# Altium integrated library TE Connectivity.IntLib: 121 symbols
Pins are listed as number, name and electrical type; pins without a type are passive.

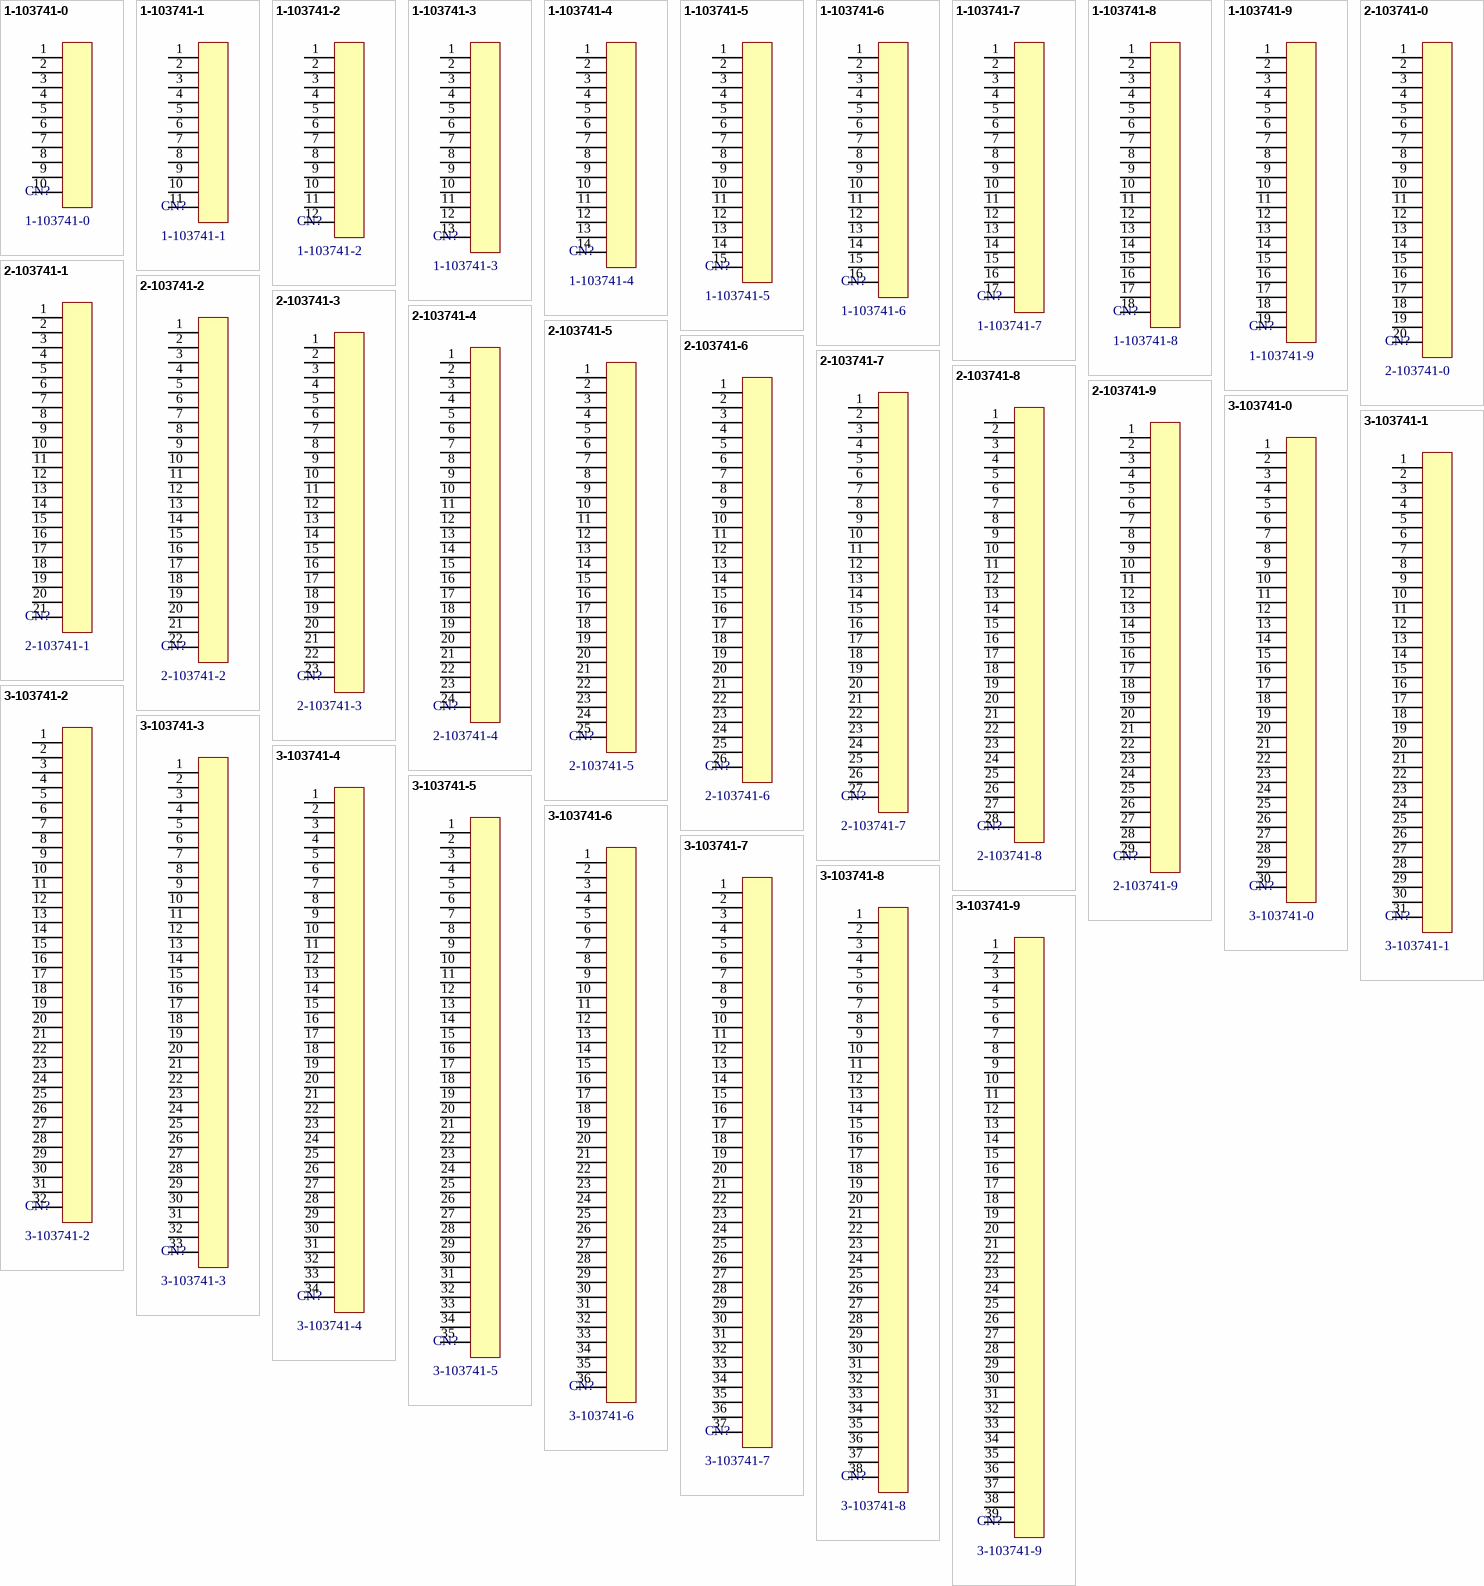
[diagram p0: symbols 1-103741-0 to 3-103741-9]

## 1-103741-0
designator CN?
CONN Breakaway Single Row
footprint 1-103741-0 (CONN Breakaway Single Row)
pins: 1, 2, 3, 4, 5, 6, 7, 8, 9, 10

## 1-103741-1
designator CN?
CONN Breakaway Single Row
footprint 1-103741-1 (CONN Breakaway Single Row)
pins: 1, 2, 3, 4, 5, 6, 7, 8, 9, 10, 11

## 1-103741-2
designator CN?
CONN Breakaway Single Row
footprint 1-103741-2 (CONN Breakaway Single Row)
pins: 1, 2, 3, 4, 5, 6, 7, 8, 9, 10, 11, 12

## 1-103741-3
designator CN?
CONN Breakaway Single Row
footprint 1-103741-3 (CONN Breakaway Single Row)
pins: 1, 2, 3, 4, 5, 6, 7, 8, 9, 10, 11, 12, 13

## 1-103741-4
designator CN?
CONN Breakaway Single Row
footprint 1-103741-4 (CONN Breakaway Single Row)
pins: 1, 2, 3, 4, 5, 6, 7, 8, 9, 10, 11, 12, 13, 14

## 1-103741-5
designator CN?
CONN Breakaway Single Row
footprint 1-103741-5 (CONN Breakaway Single Row)
pins: 1, 2, 3, 4, 5, 6, 7, 8, 9, 10, 11, 12, 13, 14, 15

## 1-103741-6
designator CN?
CONN Breakaway Single Row
footprint 1-103741-6 (CONN Breakaway Single Row)
pins: 1, 2, 3, 4, 5, 6, 7, 8, 9, 10, 11, 12, 13, 14, 15, 16

## 1-103741-7
designator CN?
CONN Breakaway Single Row
footprint 1-103741-7 (CONN Breakaway Single Row)
pins: 1, 2, 3, 4, 5, 6, 7, 8, 9, 10, 11, 12, 13, 14, 15, 16, 17

## 1-103741-8
designator CN?
CONN Breakaway Single Row
footprint 1-103741-8 (CONN Breakaway Single Row)
pins: 1, 2, 3, 4, 5, 6, 7, 8, 9, 10, 11, 12, 13, 14, 15, 16, 17, 18

## 1-103741-9
designator CN?
CONN Breakaway Single Row
footprint 1-103741-9 (CONN Breakaway Single Row)
pins: 1, 2, 3, 4, 5, 6, 7, 8, 9, 10, 11, 12, 13, 14, 15, 16, 17, 18, 19

## 2-103741-0
designator CN?
CONN Breakaway Single Row
footprint 2-103741-0 (CONN Breakaway Single Row)
pins: 1, 2, 3, 4, 5, 6, 7, 8, 9, 10, 11, 12, 13, 14, 15, 16, 17, 18, 19, 20

## 2-103741-1
designator CN?
CONN Breakaway Single Row
footprint 2-103741-1 (CONN Breakaway Single Row)
pins: 1, 2, 3, 4, 5, 6, 7, 8, 9, 10, 11, 12, 13, 14, 15, 16, 17, 18, 19, 20, 21

## 2-103741-2
designator CN?
CONN Breakaway Single Row
footprint 2-103741-2 (CONN Breakaway Single Row)
pins: 1, 2, 3, 4, 5, 6, 7, 8, 9, 10, 11, 12, 13, 14, 15, 16, 17, 18, 19, 20, 21, 22

## 2-103741-3
designator CN?
CONN Breakaway Single Row
footprint 2-103741-3 (CONN Breakaway Single Row)
pins: 1, 2, 3, 4, 5, 6, 7, 8, 9, 10, 11, 12, 13, 14, 15, 16, 17, 18, 19, 20, 21, 22, 23

## 2-103741-4
designator CN?
CONN Breakaway Single Row
footprint 2-103741-4 (CONN Breakaway Single Row)
pins: 1, 2, 3, 4, 5, 6, 7, 8, 9, 10, 11, 12, 13, 14, 15, 16, 17, 18, 19, 20, 21, 22, 23, 24

## 2-103741-5
designator CN?
CONN Breakaway Single Row
footprint 2-103741-5 (CONN Breakaway Single Row)
pins: 1, 2, 3, 4, 5, 6, 7, 8, 9, 10, 11, 12, 13, 14, 15, 16, 17, 18, 19, 20, 21, 22, 23, 24, 25

## 2-103741-6
designator CN?
CONN Breakaway Single Row
footprint 2-103741-6 (CONN Breakaway Single Row)
pins: 1, 2, 3, 4, 5, 6, 7, 8, 9, 10, 11, 12, 13, 14, 15, 16, 17, 18, 19, 20, 21, 22, 23, 24, 25, 26

## 2-103741-7
designator CN?
CONN Breakaway Single Row
footprint 2-103741-7 (CONN Breakaway Single Row)
pins: 1, 2, 3, 4, 5, 6, 7, 8, 9, 10, 11, 12, 13, 14, 15, 16, 17, 18, 19, 20, 21, 22, 23, 24, 25, 26, 27

## 2-103741-8
designator CN?
CONN Breakaway Single Row
footprint 2-103741-8 (CONN Breakaway Single Row)
pins: 1, 2, 3, 4, 5, 6, 7, 8, 9, 10, 11, 12, 13, 14, 15, 16, 17, 18, 19, 20, 21, 22, 23, 24, 25, 26, 27, 28

## 2-103741-9
designator CN?
CONN Breakaway Single Row
footprint 2-103741-9 (CONN Breakaway Single Row)
pins: 1, 2, 3, 4, 5, 6, 7, 8, 9, 10, 11, 12, 13, 14, 15, 16, 17, 18, 19, 20, 21, 22, 23, 24, 25, 26, 27, 28, 29

## 3-103741-0
designator CN?
CONN Breakaway Single Row
footprint 3-103741-0 (CONN Breakaway Single Row)
pins: 1, 2, 3, 4, 5, 6, 7, 8, 9, 10, 11, 12, 13, 14, 15, 16, 17, 18, 19, 20, 21, 22, 23, 24, 25, 26, 27, 28, 29, 30

## 3-103741-1
designator CN?
CONN Breakaway Single Row
footprint 3-103741-1 (CONN Breakaway Single Row)
pins: 1, 2, 3, 4, 5, 6, 7, 8, 9, 10, 11, 12, 13, 14, 15, 16, 17, 18, 19, 20, 21, 22, 23, 24, 25, 26, 27, 28, 29, 30, 31

## 3-103741-2
designator CN?
CONN Breakaway Single Row
footprint 3-103741-2 (CONN Breakaway Single Row)
pins: 1, 2, 3, 4, 5, 6, 7, 8, 9, 10, 11, 12, 13, 14, 15, 16, 17, 18, 19, 20, 21, 22, 23, 24, 25, 26, 27, 28, 29, 30, 31, 32

## 3-103741-3
designator CN?
CONN Breakaway Single Row
footprint 3-103741-3 (CONN Breakaway Single Row)
pins: 1, 2, 3, 4, 5, 6, 7, 8, 9, 10, 11, 12, 13, 14, 15, 16, 17, 18, 19, 20, 21, 22, 23, 24, 25, 26, 27, 28, 29, 30, 31, 32, 33

## 3-103741-4
designator CN?
CONN Breakaway Single Row
footprint 3-103741-4 (CONN Breakaway Single Row)
pins: 1, 2, 3, 4, 5, 6, 7, 8, 9, 10, 11, 12, 13, 14, 15, 16, 17, 18, 19, 20, 21, 22, 23, 24, 25, 26, 27, 28, 29, 30, 31, 32, 33, 34

## 3-103741-5
designator CN?
CONN Breakaway Single Row
footprint 3-103741-5 (CONN Breakaway Single Row)
pins: 1, 2, 3, 4, 5, 6, 7, 8, 9, 10, 11, 12, 13, 14, 15, 16, 17, 18, 19, 20, 21, 22, 23, 24, 25, 26, 27, 28, 29, 30, 31, 32, 33, 34, 35

## 3-103741-6
designator CN?
CONN Breakaway Single Row
footprint 3-103741-6 (CONN Breakaway Single Row)
pins: 1, 2, 3, 4, 5, 6, 7, 8, 9, 10, 11, 12, 13, 14, 15, 16, 17, 18, 19, 20, 21, 22, 23, 24, 25, 26, 27, 28, 29, 30, 31, 32, 33, 34, 35, 36

## 3-103741-7
designator CN?
CONN Breakaway Single Row
footprint 3-103741-7 (CONN Breakaway Single Row)
pins: 1, 2, 3, 4, 5, 6, 7, 8, 9, 10, 11, 12, 13, 14, 15, 16, 17, 18, 19, 20, 21, 22, 23, 24, 25, 26, 27, 28, 29, 30, 31, 32, 33, 34, 35, 36, 37

## 3-103741-8
designator CN?
CONN Breakaway Single Row
footprint 3-103741-8 (CONN Breakaway Single Row)
pins: 1, 2, 3, 4, 5, 6, 7, 8, 9, 10, 11, 12, 13, 14, 15, 16, 17, 18, 19, 20, 21, 22, 23, 24, 25, 26, 27, 28, 29, 30, 31, 32, 33, 34, 35, 36, 37, 38

## 3-103741-9
designator CN?
CONN Breakaway Single Row
footprint 3-103741-9 (CONN Breakaway Single Row)
pins: 1, 2, 3, 4, 5, 6, 7, 8, 9, 10, 11, 12, 13, 14, 15, 16, 17, 18, 19, 20, 21, 22, 23, 24, 25, 26, 27, 28, 29, 30, 31, 32, 33, 34, 35, 36, 37, 38, 39

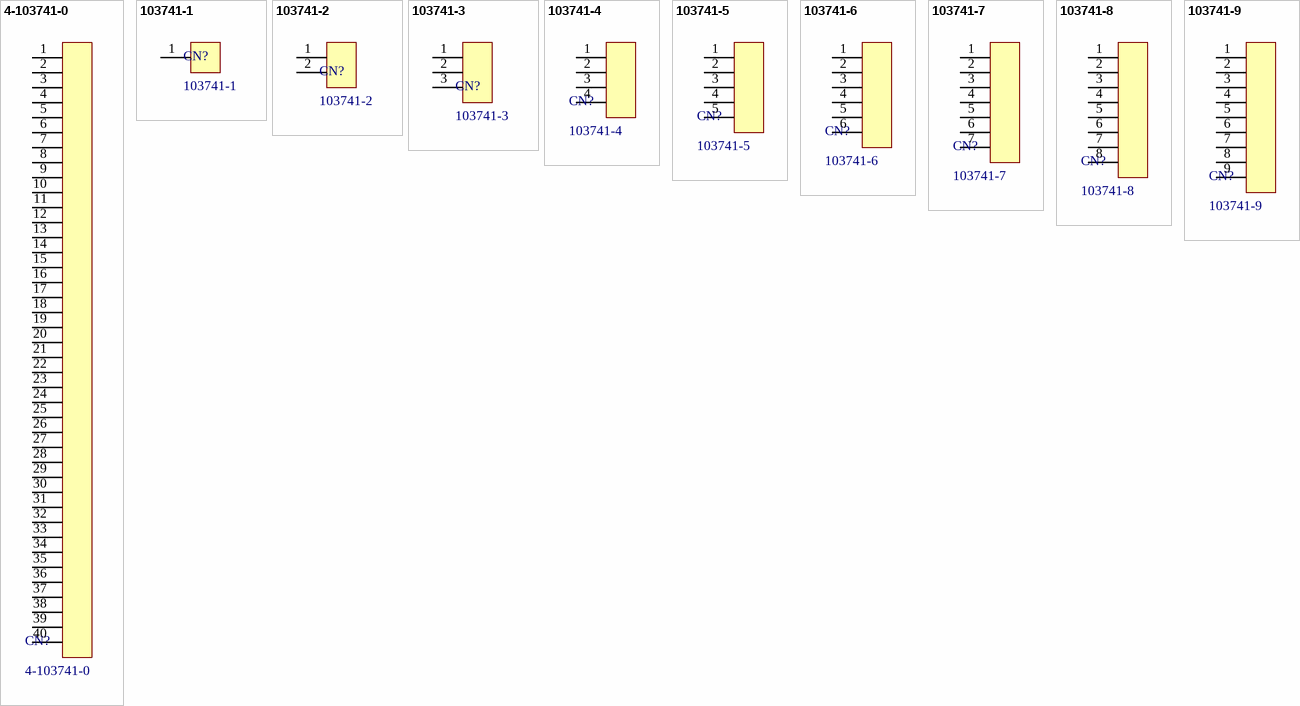
[diagram p1: symbols 4-103741-0 to 103741-9]

## 4-103741-0
designator CN?
CONN Breakaway Single Row
footprint 4-103741-0 (CONN Breakaway Single Row)
pins: 1, 2, 3, 4, 5, 6, 7, 8, 9, 10, 11, 12, 13, 14, 15, 16, 17, 18, 19, 20, 21, 22, 23, 24, 25, 26, 27, 28, 29, 30, 31, 32, 33, 34, 35, 36, 37, 38, 39, 40

## 103741-1
designator CN?
CONN Breakaway Single Row
footprint 103741-1 (CONN Breakaway Single Row)
pins: 1

## 103741-2
designator CN?
CONN Breakaway Single Row
footprint 103741-2 (CONN Breakaway Single Row)
pins: 1, 2

## 103741-3
designator CN?
CONN Breakaway Single Row
footprint 103741-3 (CONN Breakaway Single Row)
pins: 1, 2, 3

## 103741-4
designator CN?
CONN Breakaway Single Row
footprint 103741-4 (CONN Breakaway Single Row)
pins: 1, 2, 3, 4

## 103741-5
designator CN?
CONN Breakaway Single Row
footprint 103741-5 (CONN Breakaway Single Row)
pins: 1, 2, 3, 4, 5

## 103741-6
designator CN?
CONN Breakaway Single Row
footprint 103741-6 (CONN Breakaway Single Row)
pins: 1, 2, 3, 4, 5, 6

## 103741-7
designator CN?
CONN Breakaway Single Row
footprint 103741-7 (CONN Breakaway Single Row)
pins: 1, 2, 3, 4, 5, 6, 7

## 103741-8
designator CN?
CONN Breakaway Single Row
footprint 103741-8 (CONN Breakaway Single Row)
pins: 1, 2, 3, 4, 5, 6, 7, 8

## 103741-9
designator CN?
CONN Breakaway Single Row
footprint 103741-9 (CONN Breakaway Single Row)
pins: 1, 2, 3, 4, 5, 6, 7, 8, 9


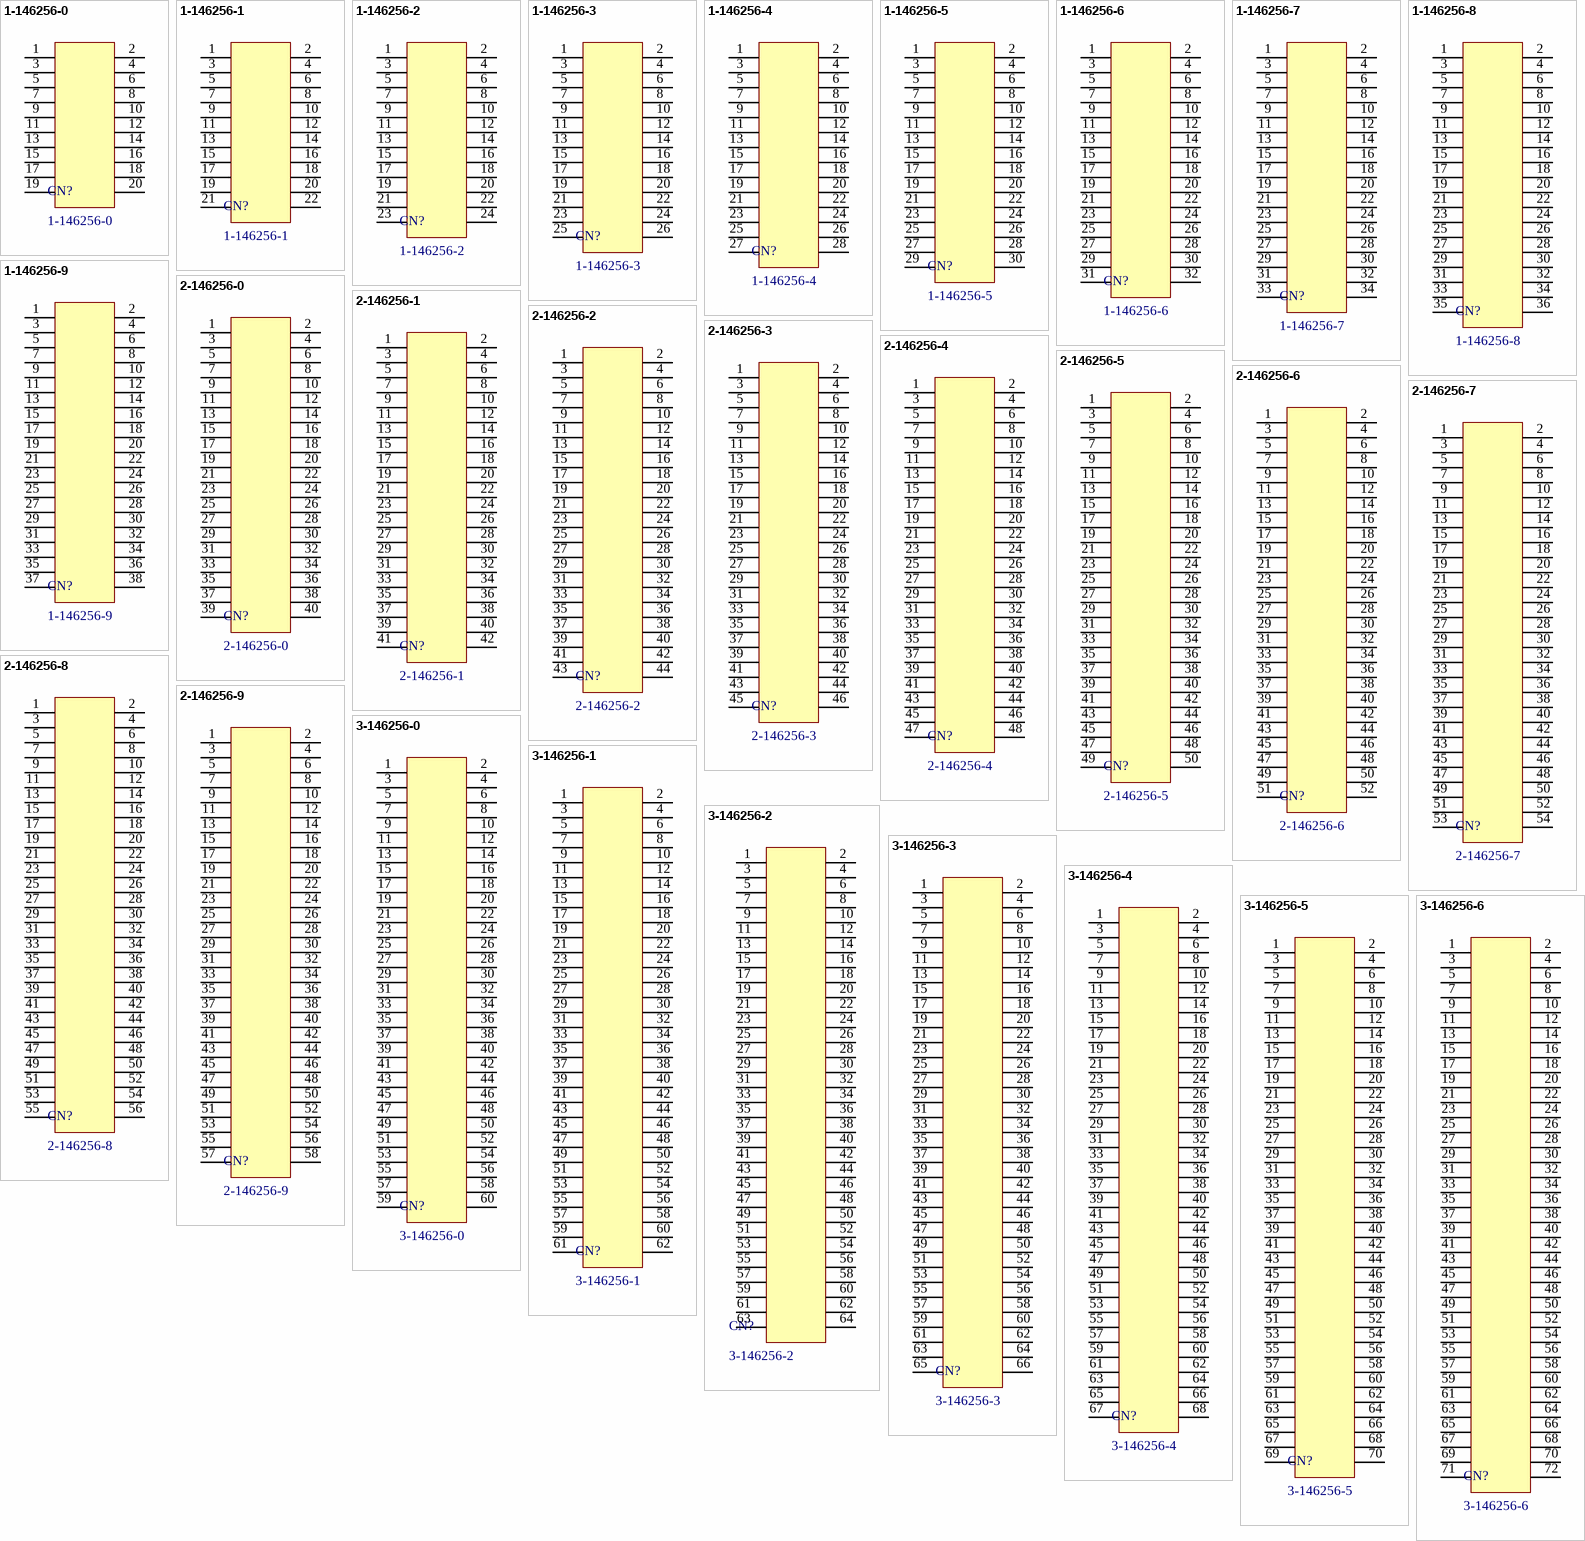
[diagram p2: symbols 1-146256-0 to 3-146256-6]

## 1-146256-0
designator CN?
CONN Header Breakaway
footprint 1-146256-0 (CONN Header Breakaway)
pins: 1, 2, 3, 4, 5, 6, 7, 8, 9, 10, 11, 12, 13, 14, 15, 16, 17, 18, 19, 20

## 1-146256-1
designator CN?
CONN Header Breakaway
footprint 1-146256-1 (CONN Header Breakaway)
pins: 1, 2, 3, 4, 5, 6, 7, 8, 9, 10, 11, 12, 13, 14, 15, 16, 17, 18, 19, 20, 21, 22

## 1-146256-2
designator CN?
CONN Header Breakaway
footprint 1-146256-2 (CONN Header Breakaway)
pins: 1, 2, 3, 4, 5, 6, 7, 8, 9, 10, 11, 12, 13, 14, 15, 16, 17, 18, 19, 20, 21, 22, 23, 24

## 1-146256-3
designator CN?
CONN Header Breakaway
footprint 1-146256-3 (CONN Header Breakaway)
pins: 1, 2, 3, 4, 5, 6, 7, 8, 9, 10, 11, 12, 13, 14, 15, 16, 17, 18, 19, 20, 21, 22, 23, 24, 25, 26

## 1-146256-4
designator CN?
CONN Header Breakaway
footprint 1-146256-4 (CONN Header Breakaway)
pins: 1, 2, 3, 4, 5, 6, 7, 8, 9, 10, 11, 12, 13, 14, 15, 16, 17, 18, 19, 20, 21, 22, 23, 24, 25, 26, 27, 28

## 1-146256-5
designator CN?
CONN Header Breakaway
footprint 1-146256-5 (CONN Header Breakaway)
pins: 1, 2, 3, 4, 5, 6, 7, 8, 9, 10, 11, 12, 13, 14, 15, 16, 17, 18, 19, 20, 21, 22, 23, 24, 25, 26, 27, 28, 29, 30

## 1-146256-6
designator CN?
CONN Header Breakaway
footprint 1-146256-6 (CONN Header Breakaway)
pins: 1, 2, 3, 4, 5, 6, 7, 8, 9, 10, 11, 12, 13, 14, 15, 16, 17, 18, 19, 20, 21, 22, 23, 24, 25, 26, 27, 28, 29, 30, 31, 32

## 1-146256-7
designator CN?
CONN Header Breakaway
footprint 1-146256-7 (CONN Header Breakaway)
pins: 1, 2, 3, 4, 5, 6, 7, 8, 9, 10, 11, 12, 13, 14, 15, 16, 17, 18, 19, 20, 21, 22, 23, 24, 25, 26, 27, 28, 29, 30, 31, 32, 33, 34

## 1-146256-8
designator CN?
CONN Header Breakaway
footprint 1-146256-8 (CONN Header Breakaway)
pins: 1, 2, 3, 4, 5, 6, 7, 8, 9, 10, 11, 12, 13, 14, 15, 16, 17, 18, 19, 20, 21, 22, 23, 24, 25, 26, 27, 28, 29, 30, 31, 32, 33, 34, 35, 36

## 1-146256-9
designator CN?
CONN Header Breakaway
footprint 1-146256-9 (CONN Header Breakaway)
pins: 1, 2, 3, 4, 5, 6, 7, 8, 9, 10, 11, 12, 13, 14, 15, 16, 17, 18, 19, 20, 21, 22, 23, 24, 25, 26, 27, 28, 29, 30, 31, 32, 33, 34, 35, 36, 37, 38

## 2-146256-0
designator CN?
CONN Header Breakaway
footprint 2-146256-0 (CONN Header Breakaway)
pins: 1, 2, 3, 4, 5, 6, 7, 8, 9, 10, 11, 12, 13, 14, 15, 16, 17, 18, 19, 20, 21, 22, 23, 24, 25, 26, 27, 28, 29, 30, 31, 32, 33, 34, 35, 36, 37, 38, 39, 40

## 2-146256-1
designator CN?
CONN Header Breakaway
footprint 2-146256-1 (CONN Header Breakaway)
pins: 1, 2, 3, 4, 5, 6, 7, 8, 9, 10, 11, 12, 13, 14, 15, 16, 17, 18, 19, 20, 21, 22, 23, 24, 25, 26, 27, 28, 29, 30, 31, 32, 33, 34, 35, 36, 37, 38, 39, 40, 41, 42

## 2-146256-2
designator CN?
CONN Header Breakaway
footprint 2-146256-2 (CONN Header Breakaway)
pins: 1, 2, 3, 4, 5, 6, 7, 8, 9, 10, 11, 12, 13, 14, 15, 16, 17, 18, 19, 20, 21, 22, 23, 24, 25, 26, 27, 28, 29, 30, 31, 32, 33, 34, 35, 36, 37, 38, 39, 40, 41, 42, 43, 44

## 2-146256-3
designator CN?
CONN Header Breakaway
footprint 2-146256-3 (CONN Header Breakaway)
pins: 1, 2, 3, 4, 5, 6, 7, 8, 9, 10, 11, 12, 13, 14, 15, 16, 17, 18, 19, 20, 21, 22, 23, 24, 25, 26, 27, 28, 29, 30, 31, 32, 33, 34, 35, 36, 37, 38, 39, 40, 41, 42, 43, 44, 45, 46

## 2-146256-4
designator CN?
CONN Header Breakaway
footprint 2-146256-4 (CONN Header Breakaway)
pins: 1, 2, 3, 4, 5, 6, 7, 8, 9, 10, 11, 12, 13, 14, 15, 16, 17, 18, 19, 20, 21, 22, 23, 24, 25, 26, 27, 28, 29, 30, 31, 32, 33, 34, 35, 36, 37, 38, 39, 40, 41, 42, 43, 44, 45, 46, 47, 48

## 2-146256-5
designator CN?
CONN Header Breakaway
footprint 2-146256-5 (CONN Header Breakaway)
pins: 1, 2, 3, 4, 5, 6, 7, 8, 9, 10, 11, 12, 13, 14, 15, 16, 17, 18, 19, 20, 21, 22, 23, 24, 25, 26, 27, 28, 29, 30, 31, 32, 33, 34, 35, 36, 37, 38, 39, 40, 41, 42, 43, 44, 45, 46, 47, 48, 49, 50

## 2-146256-6
designator CN?
CONN Header Breakaway
footprint 2-146256-6 (CONN Header Breakaway)
pins: 1, 2, 3, 4, 5, 6, 7, 8, 9, 10, 11, 12, 13, 14, 15, 16, 17, 18, 19, 20, 21, 22, 23, 24, 25, 26, 27, 28, 29, 30, 31, 32, 33, 34, 35, 36, 37, 38, 39, 40, 41, 42, 43, 44, 45, 46, 47, 48, 49, 50, 51, 52

## 2-146256-7
designator CN?
CONN Header Breakaway
footprint 2-146256-7 (CONN Header Breakaway)
pins: 1, 2, 3, 4, 5, 6, 7, 8, 9, 10, 11, 12, 13, 14, 15, 16, 17, 18, 19, 20, 21, 22, 23, 24, 25, 26, 27, 28, 29, 30, 31, 32, 33, 34, 35, 36, 37, 38, 39, 40, 41, 42, 43, 44, 45, 46, 47, 48, 49, 50, 51, 52, 53, 54

## 2-146256-8
designator CN?
CONN Header Breakaway
footprint 2-146256-8 (CONN Header Breakaway)
pins: 1, 2, 3, 4, 5, 6, 7, 8, 9, 10, 11, 12, 13, 14, 15, 16, 17, 18, 19, 20, 21, 22, 23, 24, 25, 26, 27, 28, 29, 30, 31, 32, 33, 34, 35, 36, 37, 38, 39, 40, 41, 42, 43, 44, 45, 46, 47, 48, 49, 50, 51, 52, 53, 54, 55, 56

## 2-146256-9
designator CN?
CONN Header Breakaway
footprint 2-146256-9 (CONN Header Breakaway)
pins: 1, 2, 3, 4, 5, 6, 7, 8, 9, 10, 11, 12, 13, 14, 15, 16, 17, 18, 19, 20, 21, 22, 23, 24, 25, 26, 27, 28, 29, 30, 31, 32, 33, 34, 35, 36, 37, 38, 39, 40, 41, 42, 43, 44, 45, 46, 47, 48, 49, 50, 51, 52, 53, 54, 55, 56, 57, 58

## 3-146256-0
designator CN?
CONN Header Breakaway
footprint 3-146256-0 (CONN Header Breakaway)
pins: 1, 2, 3, 4, 5, 6, 7, 8, 9, 10, 11, 12, 13, 14, 15, 16, 17, 18, 19, 20, 21, 22, 23, 24, 25, 26, 27, 28, 29, 30, 31, 32, 33, 34, 35, 36, 37, 38, 39, 40, 41, 42, 43, 44, 45, 46, 47, 48, 49, 50, 51, 52, 53, 54, 55, 56, 57, 58, 59, 60

## 3-146256-1
designator CN?
CONN Header Breakaway
footprint 3-146256-1 (CONN Header Breakaway)
pins: 1, 2, 3, 4, 5, 6, 7, 8, 9, 10, 11, 12, 13, 14, 15, 16, 17, 18, 19, 20, 21, 22, 23, 24, 25, 26, 27, 28, 29, 30, 31, 32, 33, 34, 35, 36, 37, 38, 39, 40, 41, 42, 43, 44, 45, 46, 47, 48, 49, 50, 51, 52, 53, 54, 55, 56, 57, 58, 59, 60, 61, 62

## 3-146256-2
designator CN?
CONN Header Breakaway
footprint 3-146256-2 (CONN Header Breakaway)
pins: 1, 2, 3, 4, 5, 6, 7, 8, 9, 10, 11, 12, 13, 14, 15, 16, 17, 18, 19, 20, 21, 22, 23, 24, 25, 26, 27, 28, 29, 30, 31, 32, 33, 34, 35, 36, 37, 38, 39, 40, 41, 42, 43, 44, 45, 46, 47, 48, 49, 50, 51, 52, 53, 54, 55, 56, 57, 58, 59, 60, 61, 62, 63, 64

## 3-146256-3
designator CN?
CONN Header Breakaway
footprint 3-146256-3 (CONN Header Breakaway)
pins: 1, 2, 3, 4, 5, 6, 7, 8, 9, 10, 11, 12, 13, 14, 15, 16, 17, 18, 19, 20, 21, 22, 23, 24, 25, 26, 27, 28, 29, 30, 31, 32, 33, 34, 35, 36, 37, 38, 39, 40, 41, 42, 43, 44, 45, 46, 47, 48, 49, 50, 51, 52, 53, 54, 55, 56, 57, 58, 59, 60, 61, 62, 63, 64, 65, 66

## 3-146256-4
designator CN?
CONN Header Breakaway
footprint 3-146256-4 (CONN Header Breakaway)
pins: 1, 2, 3, 4, 5, 6, 7, 8, 9, 10, 11, 12, 13, 14, 15, 16, 17, 18, 19, 20, 21, 22, 23, 24, 25, 26, 27, 28, 29, 30, 31, 32, 33, 34, 35, 36, 37, 38, 39, 40, 41, 42, 43, 44, 45, 46, 47, 48, 49, 50, 51, 52, 53, 54, 55, 56, 57, 58, 59, 60, 61, 62, 63, 64, 65, 66, 67, 68

## 3-146256-5
designator CN?
CONN Header Breakaway
footprint 3-146256-5 (CONN Header Breakaway)
pins: 1, 2, 3, 4, 5, 6, 7, 8, 9, 10, 11, 12, 13, 14, 15, 16, 17, 18, 19, 20, 21, 22, 23, 24, 25, 26, 27, 28, 29, 30, 31, 32, 33, 34, 35, 36, 37, 38, 39, 40, 41, 42, 43, 44, 45, 46, 47, 48, 49, 50, 51, 52, 53, 54, 55, 56, 57, 58, 59, 60, 61, 62, 63, 64, 65, 66, 67, 68, 69, 70

## 3-146256-6
designator CN?
CONN Header Breakaway
footprint 3-146256-6 (CONN Header Breakaway)
pins: 1, 2, 3, 4, 5, 6, 7, 8, 9, 10, 11, 12, 13, 14, 15, 16, 17, 18, 19, 20, 21, 22, 23, 24, 25, 26, 27, 28, 29, 30, 31, 32, 33, 34, 35, 36, 37, 38, 39, 40, 41, 42, 43, 44, 45, 46, 47, 48, 49, 50, 51, 52, 53, 54, 55, 56, 57, 58, 59, 60, 61, 62, 63, 64, 65, 66, 67, 68, 69, 70, 71, 72

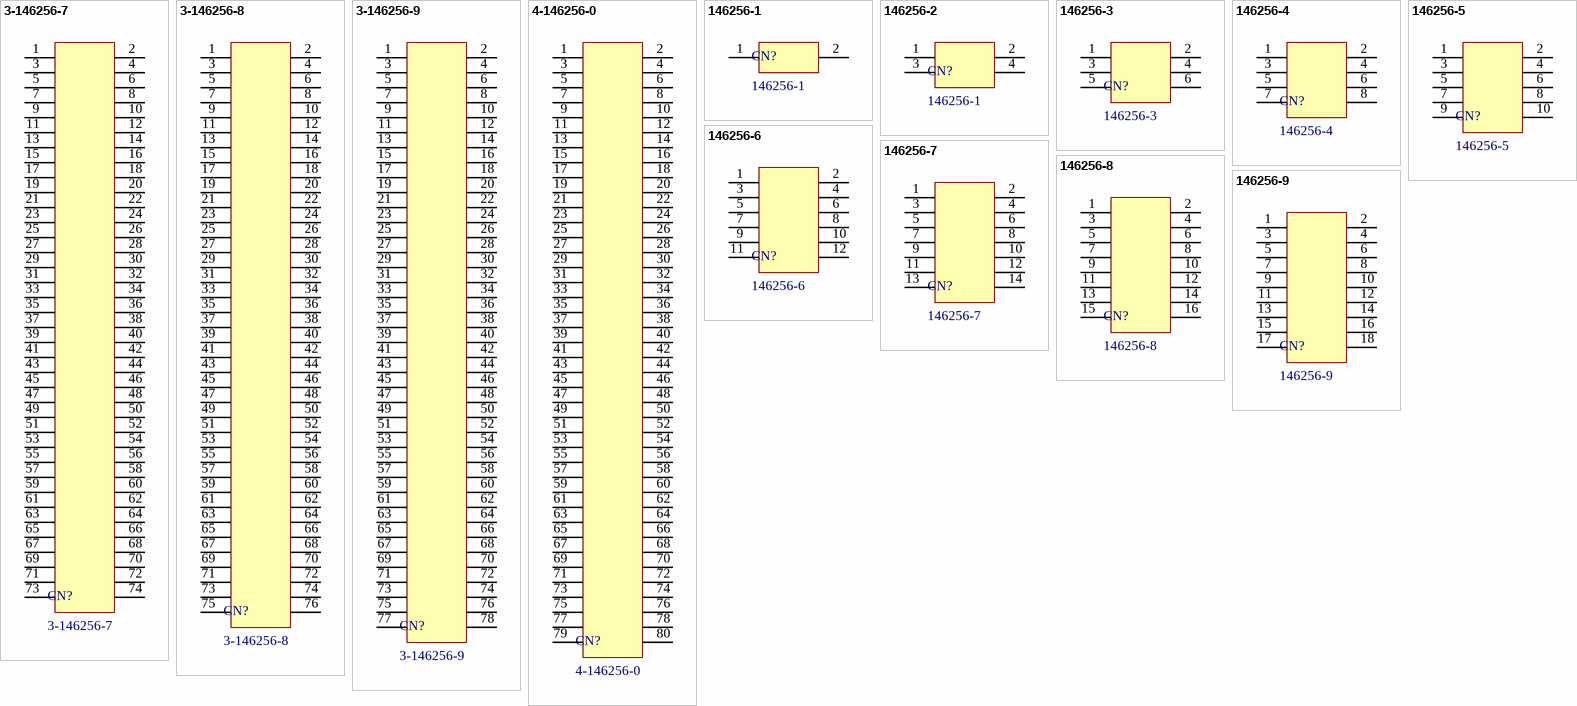
[diagram p3: symbols 3-146256-7 to 146256-9]

## 3-146256-7
designator CN?
CONN Header Breakaway
footprint 3-146256-7 (CONN Header Breakaway)
pins: 1, 2, 3, 4, 5, 6, 7, 8, 9, 10, 11, 12, 13, 14, 15, 16, 17, 18, 19, 20, 21, 22, 23, 24, 25, 26, 27, 28, 29, 30, 31, 32, 33, 34, 35, 36, 37, 38, 39, 40, 41, 42, 43, 44, 45, 46, 47, 48, 49, 50, 51, 52, 53, 54, 55, 56, 57, 58, 59, 60, 61, 62, 63, 64, 65, 66, 67, 68, 69, 70, 71, 72, 73, 74

## 3-146256-8
designator CN?
CONN Header Breakaway
footprint 3-146256-8 (CONN Header Breakaway)
pins: 1, 2, 3, 4, 5, 6, 7, 8, 9, 10, 11, 12, 13, 14, 15, 16, 17, 18, 19, 20, 21, 22, 23, 24, 25, 26, 27, 28, 29, 30, 31, 32, 33, 34, 35, 36, 37, 38, 39, 40, 41, 42, 43, 44, 45, 46, 47, 48, 49, 50, 51, 52, 53, 54, 55, 56, 57, 58, 59, 60, 61, 62, 63, 64, 65, 66, 67, 68, 69, 70, 71, 72, 73, 74, 75, 76

## 3-146256-9
designator CN?
CONN Header Breakaway
footprint 3-146256-9 (CONN Header Breakaway)
pins: 1, 2, 3, 4, 5, 6, 7, 8, 9, 10, 11, 12, 13, 14, 15, 16, 17, 18, 19, 20, 21, 22, 23, 24, 25, 26, 27, 28, 29, 30, 31, 32, 33, 34, 35, 36, 37, 38, 39, 40, 41, 42, 43, 44, 45, 46, 47, 48, 49, 50, 51, 52, 53, 54, 55, 56, 57, 58, 59, 60, 61, 62, 63, 64, 65, 66, 67, 68, 69, 70, 71, 72, 73, 74, 75, 76, 77, 78

## 4-146256-0
designator CN?
CONN Header Breakaway
footprint 4-146256-0 (CONN Header Breakaway)
pins: 1, 2, 3, 4, 5, 6, 7, 8, 9, 10, 11, 12, 13, 14, 15, 16, 17, 18, 19, 20, 21, 22, 23, 24, 25, 26, 27, 28, 29, 30, 31, 32, 33, 34, 35, 36, 37, 38, 39, 40, 41, 42, 43, 44, 45, 46, 47, 48, 49, 50, 51, 52, 53, 54, 55, 56, 57, 58, 59, 60, 61, 62, 63, 64, 65, 66, 67, 68, 69, 70, 71, 72, 73, 74, 75, 76, 77, 78, 79, 80

## 146256-1
designator CN?
CONN Header Breakaway
footprint 146256-1 (CONN Header Breakaway)
pins: 1, 2

## 146256-2
designator CN?, comment 146256-1
CONN Header Breakaway
footprint 146256-2 (CONN Header Breakaway)
pins: 1, 2, 3, 4

## 146256-3
designator CN?
CONN Header Breakaway
footprint 146256-3 (CONN Header Breakaway)
pins: 1, 2, 3, 4, 5, 6

## 146256-4
designator CN?
CONN Header Breakaway
footprint 146256-4 (CONN Header Breakaway)
pins: 1, 2, 3, 4, 5, 6, 7, 8

## 146256-5
designator CN?
CONN Header Breakaway
footprint 146256-5 (CONN Header Breakaway)
pins: 1, 2, 3, 4, 5, 6, 7, 8, 9, 10

## 146256-6
designator CN?
CONN Header Breakaway
footprint 146256-6 (CONN Header Breakaway)
pins: 1, 2, 3, 4, 5, 6, 7, 8, 9, 10, 11, 12

## 146256-7
designator CN?
CONN Header Breakaway
footprint 146256-7 (CONN Header Breakaway)
pins: 1, 2, 3, 4, 5, 6, 7, 8, 9, 10, 11, 12, 13, 14

## 146256-8
designator CN?
CONN Header Breakaway
footprint 146256-8 (CONN Header Breakaway)
pins: 1, 2, 3, 4, 5, 6, 7, 8, 9, 10, 11, 12, 13, 14, 15, 16

## 146256-9
designator CN?
CONN Header Breakaway
footprint 146256-9 (CONN Header Breakaway)
pins: 1, 2, 3, 4, 5, 6, 7, 8, 9, 10, 11, 12, 13, 14, 15, 16, 17, 18


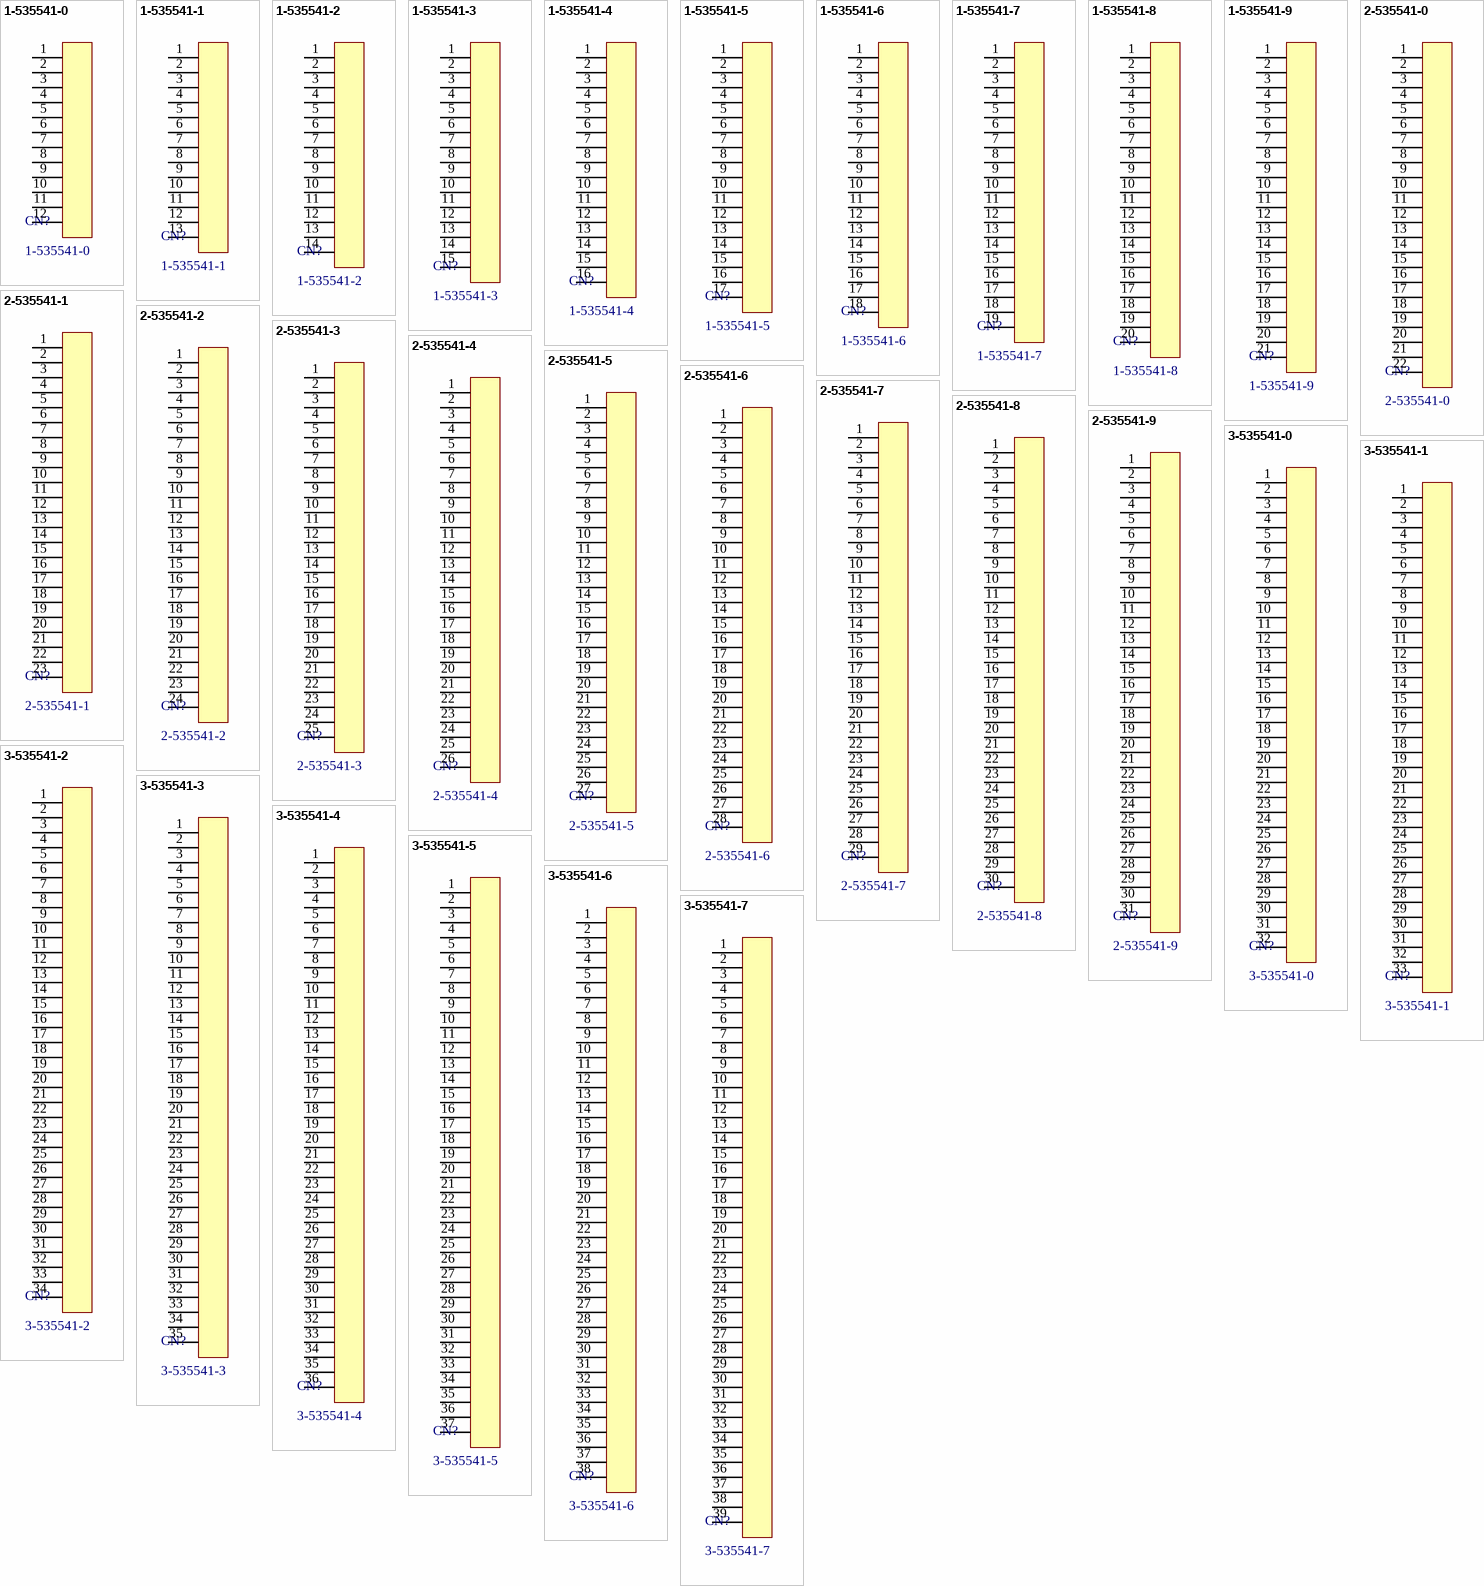
[diagram p4: symbols 1-535541-0 to 3-535541-7]

## 1-535541-0
designator CN?
CONN Receptacle Single Row Gold
footprint 1-535541-0 (CONN Receptacle Single Row Gold)
pins: 1, 2, 3, 4, 5, 6, 7, 8, 9, 10, 11, 12

## 1-535541-1
designator CN?
CONN Receptacle Single Row Gold
footprint 1-535541-1 (CONN Receptacle Single Row Gold)
pins: 1, 2, 3, 4, 5, 6, 7, 8, 9, 10, 11, 12, 13

## 1-535541-2
designator CN?
CONN Receptacle Single Row Gold
footprint 1-535541-2 (CONN Receptacle Single Row Gold)
pins: 1, 2, 3, 4, 5, 6, 7, 8, 9, 10, 11, 12, 13, 14

## 1-535541-3
designator CN?
CONN Receptacle Single Row Gold
footprint 1-535541-3 (CONN Receptacle Single Row Gold)
pins: 1, 2, 3, 4, 5, 6, 7, 8, 9, 10, 11, 12, 13, 14, 15

## 1-535541-4
designator CN?
CONN Receptacle Single Row Gold
footprint 1-535541-4 (CONN Receptacle Single Row Gold)
pins: 1, 2, 3, 4, 5, 6, 7, 8, 9, 10, 11, 12, 13, 14, 15, 16

## 1-535541-5
designator CN?
CONN Receptacle Single Row Gold
footprint 1-535541-5 (CONN Receptacle Single Row Gold)
pins: 1, 2, 3, 4, 5, 6, 7, 8, 9, 10, 11, 12, 13, 14, 15, 16, 17

## 1-535541-6
designator CN?
CONN Receptacle Single Row Gold
footprint 1-535541-6 (CONN Receptacle Single Row Gold)
pins: 1, 2, 3, 4, 5, 6, 7, 8, 9, 10, 11, 12, 13, 14, 15, 16, 17, 18

## 1-535541-7
designator CN?
CONN Receptacle Single Row Gold
footprint 1-535541-7 (CONN Receptacle Single Row Gold)
pins: 1, 2, 3, 4, 5, 6, 7, 8, 9, 10, 11, 12, 13, 14, 15, 16, 17, 18, 19

## 1-535541-8
designator CN?
CONN Receptacle Single Row Gold
footprint 1-535541-8 (CONN Receptacle Single Row Gold)
pins: 1, 2, 3, 4, 5, 6, 7, 8, 9, 10, 11, 12, 13, 14, 15, 16, 17, 18, 19, 20

## 1-535541-9
designator CN?
CONN Receptacle Single Row Gold
footprint 1-535541-9 (CONN Receptacle Single Row Gold)
pins: 1, 2, 3, 4, 5, 6, 7, 8, 9, 10, 11, 12, 13, 14, 15, 16, 17, 18, 19, 20, 21

## 2-535541-0
designator CN?
CONN Receptacle Single Row Gold
footprint 2-535541-0 (CONN Receptacle Single Row Gold)
pins: 1, 2, 3, 4, 5, 6, 7, 8, 9, 10, 11, 12, 13, 14, 15, 16, 17, 18, 19, 20, 21, 22

## 2-535541-1
designator CN?
CONN Receptacle Single Row Gold
footprint 2-535541-1 (CONN Receptacle Single Row Gold)
pins: 1, 2, 3, 4, 5, 6, 7, 8, 9, 10, 11, 12, 13, 14, 15, 16, 17, 18, 19, 20, 21, 22, 23

## 2-535541-2
designator CN?
CONN Receptacle Single Row Gold
footprint 2-535541-2 (CONN Receptacle Single Row Gold)
pins: 1, 2, 3, 4, 5, 6, 7, 8, 9, 10, 11, 12, 13, 14, 15, 16, 17, 18, 19, 20, 21, 22, 23, 24

## 2-535541-3
designator CN?
CONN Receptacle Single Row Gold
footprint 2-535541-3 (CONN Receptacle Single Row Gold)
pins: 1, 2, 3, 4, 5, 6, 7, 8, 9, 10, 11, 12, 13, 14, 15, 16, 17, 18, 19, 20, 21, 22, 23, 24, 25

## 2-535541-4
designator CN?
CONN Receptacle Single Row Gold
footprint 2-535541-4 (CONN Receptacle Single Row Gold)
pins: 1, 2, 3, 4, 5, 6, 7, 8, 9, 10, 11, 12, 13, 14, 15, 16, 17, 18, 19, 20, 21, 22, 23, 24, 25, 26

## 2-535541-5
designator CN?
CONN Receptacle Single Row Gold
footprint 2-535541-5 (CONN Receptacle Single Row Gold)
pins: 1, 2, 3, 4, 5, 6, 7, 8, 9, 10, 11, 12, 13, 14, 15, 16, 17, 18, 19, 20, 21, 22, 23, 24, 25, 26, 27

## 2-535541-6
designator CN?
CONN Receptacle Single Row Gold
footprint 2-535541-6 (CONN Receptacle Single Row Gold)
pins: 1, 2, 3, 4, 5, 6, 7, 8, 9, 10, 11, 12, 13, 14, 15, 16, 17, 18, 19, 20, 21, 22, 23, 24, 25, 26, 27, 28

## 2-535541-7
designator CN?
CONN Receptacle Single Row Gold
footprint 2-535541-7 (CONN Receptacle Single Row Gold)
pins: 1, 2, 3, 4, 5, 6, 7, 8, 9, 10, 11, 12, 13, 14, 15, 16, 17, 18, 19, 20, 21, 22, 23, 24, 25, 26, 27, 28, 29

## 2-535541-8
designator CN?
CONN Receptacle Single Row Gold
footprint 2-535541-8 (CONN Receptacle Single Row Gold)
pins: 1, 2, 3, 4, 5, 6, 7, 8, 9, 10, 11, 12, 13, 14, 15, 16, 17, 18, 19, 20, 21, 22, 23, 24, 25, 26, 27, 28, 29, 30

## 2-535541-9
designator CN?
CONN Receptacle Single Row Gold
footprint 2-535541-9 (CONN Receptacle Single Row Gold)
pins: 1, 2, 3, 4, 5, 6, 7, 8, 9, 10, 11, 12, 13, 14, 15, 16, 17, 18, 19, 20, 21, 22, 23, 24, 25, 26, 27, 28, 29, 30, 31

## 3-535541-0
designator CN?
CONN Receptacle Single Row Gold
footprint 3-535541-0 (CONN Receptacle Single Row Gold)
pins: 1, 2, 3, 4, 5, 6, 7, 8, 9, 10, 11, 12, 13, 14, 15, 16, 17, 18, 19, 20, 21, 22, 23, 24, 25, 26, 27, 28, 29, 30, 31, 32

## 3-535541-1
designator CN?
CONN Receptacle Single Row Gold
footprint 3-535541-1 (CONN Receptacle Single Row Gold)
pins: 1, 2, 3, 4, 5, 6, 7, 8, 9, 10, 11, 12, 13, 14, 15, 16, 17, 18, 19, 20, 21, 22, 23, 24, 25, 26, 27, 28, 29, 30, 31, 32, 33

## 3-535541-2
designator CN?
CONN Receptacle Single Row Gold
footprint 3-535541-2 (CONN Receptacle Single Row Gold)
pins: 1, 2, 3, 4, 5, 6, 7, 8, 9, 10, 11, 12, 13, 14, 15, 16, 17, 18, 19, 20, 21, 22, 23, 24, 25, 26, 27, 28, 29, 30, 31, 32, 33, 34

## 3-535541-3
designator CN?
CONN Receptacle Single Row Gold
footprint 3-535541-3 (CONN Receptacle Single Row Gold)
pins: 1, 2, 3, 4, 5, 6, 7, 8, 9, 10, 11, 12, 13, 14, 15, 16, 17, 18, 19, 20, 21, 22, 23, 24, 25, 26, 27, 28, 29, 30, 31, 32, 33, 34, 35

## 3-535541-4
designator CN?
CONN Receptacle Single Row Gold
footprint 3-535541-4 (CONN Receptacle Single Row Gold)
pins: 1, 2, 3, 4, 5, 6, 7, 8, 9, 10, 11, 12, 13, 14, 15, 16, 17, 18, 19, 20, 21, 22, 23, 24, 25, 26, 27, 28, 29, 30, 31, 32, 33, 34, 35, 36

## 3-535541-5
designator CN?
CONN Receptacle Single Row Gold
footprint 3-535541-5 (CONN Receptacle Single Row Gold)
pins: 1, 2, 3, 4, 5, 6, 7, 8, 9, 10, 11, 12, 13, 14, 15, 16, 17, 18, 19, 20, 21, 22, 23, 24, 25, 26, 27, 28, 29, 30, 31, 32, 33, 34, 35, 36, 37

## 3-535541-6
designator CN?
CONN Receptacle Single Row Gold
footprint 3-535541-6 (CONN Receptacle Single Row Gold)
pins: 1, 2, 3, 4, 5, 6, 7, 8, 9, 10, 11, 12, 13, 14, 15, 16, 17, 18, 19, 20, 21, 22, 23, 24, 25, 26, 27, 28, 29, 30, 31, 32, 33, 34, 35, 36, 37, 38

## 3-535541-7
designator CN?
CONN Receptacle Single Row Gold
footprint 3-535541-7 (CONN Receptacle Single Row Gold)
pins: 1, 2, 3, 4, 5, 6, 7, 8, 9, 10, 11, 12, 13, 14, 15, 16, 17, 18, 19, 20, 21, 22, 23, 24, 25, 26, 27, 28, 29, 30, 31, 32, 33, 34, 35, 36, 37, 38, 39

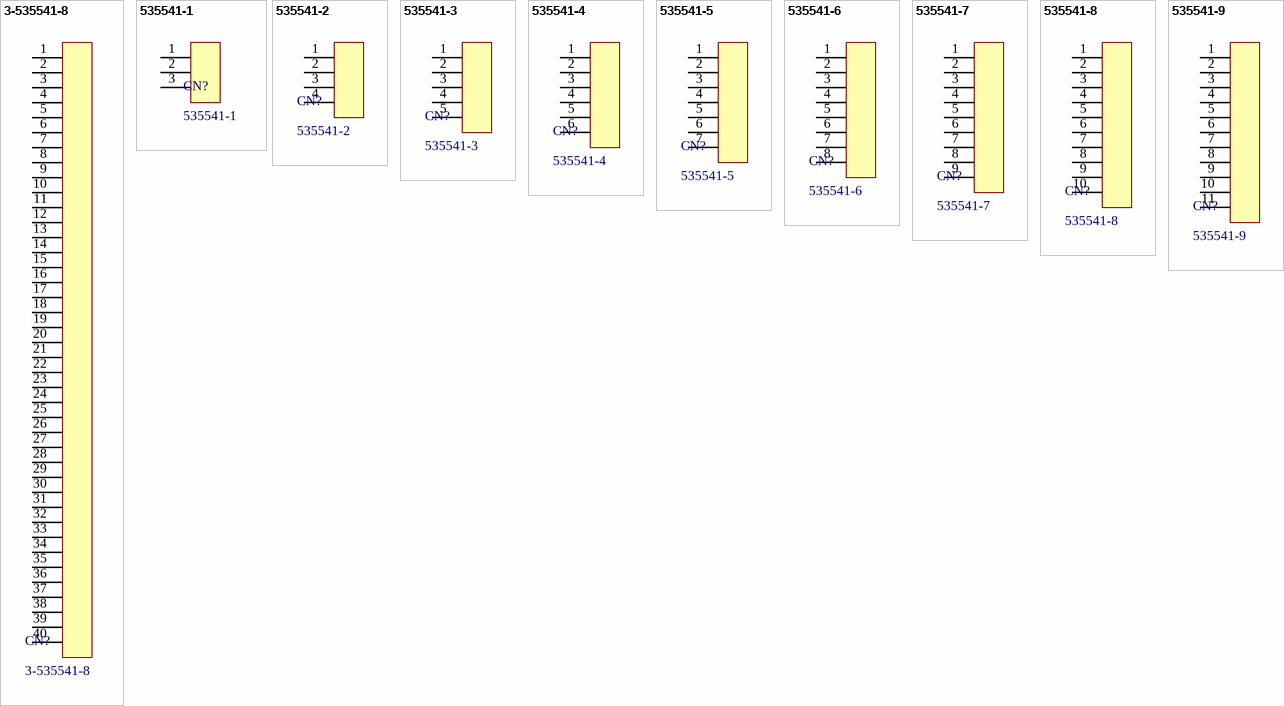
[diagram p5: symbols 3-535541-8 to 535541-9]

## 3-535541-8
designator CN?
CONN Receptacle Single Row Gold
footprint 3-535541-8 (CONN Receptacle Single Row Gold)
pins: 1, 2, 3, 4, 5, 6, 7, 8, 9, 10, 11, 12, 13, 14, 15, 16, 17, 18, 19, 20, 21, 22, 23, 24, 25, 26, 27, 28, 29, 30, 31, 32, 33, 34, 35, 36, 37, 38, 39, 40

## 535541-1
designator CN?
CONN Receptacle Single Row Gold
footprint 535541-1 (CONN Receptacle Single Row Gold)
pins: 1, 2, 3

## 535541-2
designator CN?
CONN Receptacle Single Row Gold
footprint 535541-2 (CONN Receptacle Single Row Gold)
pins: 1, 2, 3, 4

## 535541-3
designator CN?
CONN Receptacle Single Row Gold
footprint 535541-3 (CONN Receptacle Single Row Gold)
pins: 1, 2, 3, 4, 5

## 535541-4
designator CN?
CONN Receptacle Single Row Gold
footprint 535541-4 (CONN Receptacle Single Row Gold)
pins: 1, 2, 3, 4, 5, 6

## 535541-5
designator CN?
CONN Receptacle Single Row Gold
footprint 535541-5 (CONN Receptacle Single Row Gold)
pins: 1, 2, 3, 4, 5, 6, 7

## 535541-6
designator CN?
CONN Receptacle Single Row Gold
footprint 535541-6 (CONN Receptacle Single Row Gold)
pins: 1, 2, 3, 4, 5, 6, 7, 8

## 535541-7
designator CN?
CONN Receptacle Single Row Gold
footprint 535541-7 (CONN Receptacle Single Row Gold)
pins: 1, 2, 3, 4, 5, 6, 7, 8, 9

## 535541-8
designator CN?
CONN Receptacle Single Row Gold
footprint 535541-8 (CONN Receptacle Single Row Gold)
pins: 1, 2, 3, 4, 5, 6, 7, 8, 9, 10

## 535541-9
designator CN?
CONN Receptacle Single Row Gold
footprint 535541-9 (CONN Receptacle Single Row Gold)
pins: 1, 2, 3, 4, 5, 6, 7, 8, 9, 10, 11


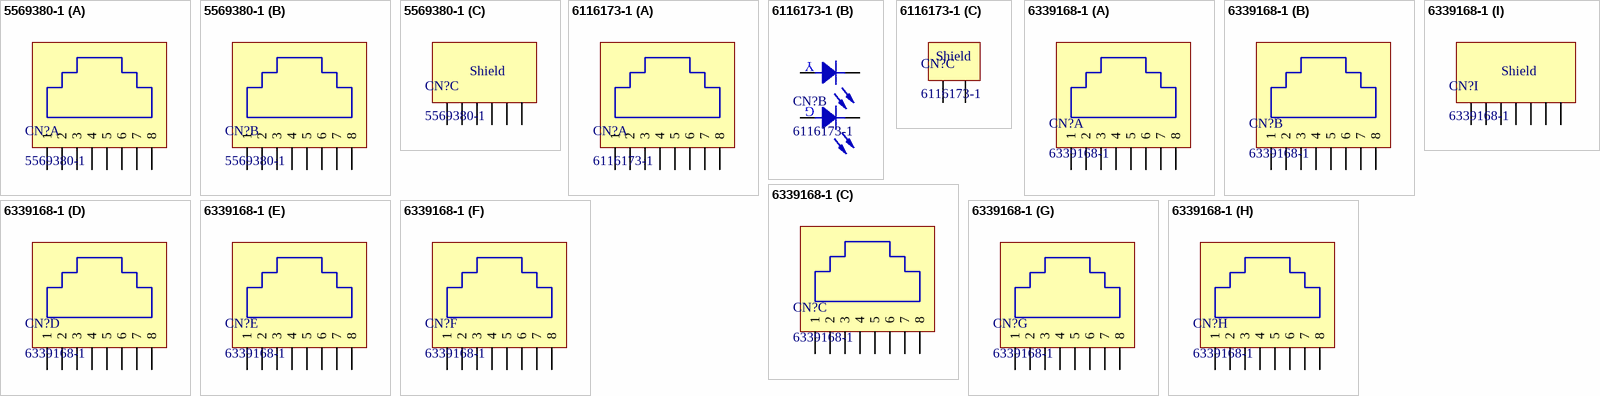
[diagram p6: symbols 5569380-1 to 6339168-1]

## 5569380-1
designator CN?
RJ45 - 2 Ports 2 Rows
footprint 5569380-1 (RJ45 - 2 Ports 2 Rows)
part A pins: 1, 2, 3, 4, 5, 6, 7, 8
part B pins: 9 1, 10 2, 11 3, 12 4, 13 5, 14 6, 15 7, 16 8
part C pins: 17, 18, 19, 20, 21, 22
part C text: Shield

## 6116173-1
designator CN?
RJ45 - 1 Ports
footprint 6116173-1
part A pins: 1, 2, 3, 4, 5, 6, 7, 8
part B pins: 9, 10, 11, 12
part C pins: 13, 14
part B text: Y; G
part C text: Shield

## 6339168-1
designator CN?
RJ45 - 8 Ports 2 Rows
footprint 6339168-1 (RJ45 - 8 Ports 2 Rows)
part A pins: 1, 2, 3, 4, 5, 6, 7, 8
part B pins: 9 1, 10 2, 11 3, 12 4, 13 5, 14 6, 15 7, 16 8
part C pins: 17 1, 18 2, 19 3, 20 4, 21 5, 22 6, 23 7, 24 8
part D pins: 25 1, 26 2, 27 3, 28 4, 29 5, 30 6, 31 7, 32 8
part E pins: 33 1, 34 2, 35 3, 36 4, 37 5, 38 6, 39 7, 40 8
part F pins: 41 1, 42 2, 43 3, 44 4, 45 5, 46 6, 47 7, 48 8
part G pins: 49 1, 50 2, 51 3, 52 4, 53 5, 54 6, 55 7, 56 8
part H pins: 57 1, 58 2, 59 3, 60 4, 61 5, 62 6, 63 7, 64 8
part I pins: 65, 66, 67, 68, 69, 70, 71
part I text: Shield